# EAGLE library part ATTINY85 (library pimoroni)
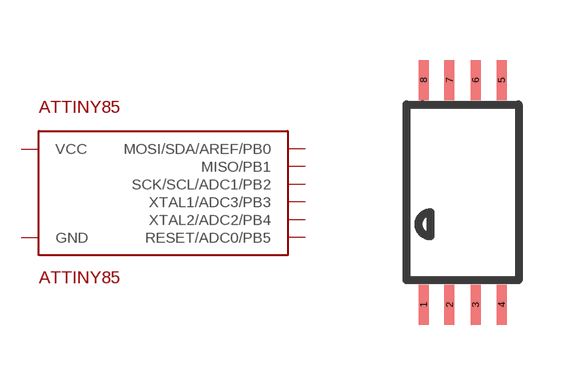
[diagram p31: symbol with the pads of TSSOP-8; footprint TSSOP-8]

Designator prefix -

## ATTINY85  [TSSOP-8]
1  RESET/ADC0/PB5
2  XTAL1/ADC3/PB3
3  XTAL2/ADC2/PB4
4  GND
5  MOSI/SDA/AREF/PB0
6  MISO/PB1
7  SCK/SCL/ADC1/PB2
8  VCC

## Footprint TSSOP-8 (pad centres in mm)
smd 0.25 x 1: 1 -0.975,-2.813; 2 -0.325,-2.813; 3 0.325,-2.813; 4 0.975,-2.813; 5 0.975,2.813; 6 0.325,2.813; 7 -0.325,2.813; 8 -0.975,2.813